# Altium integrated library ModulosV1.IntLib: 16 symbols
Pins are listed as number, name and electrical type; pins without a type are passive.

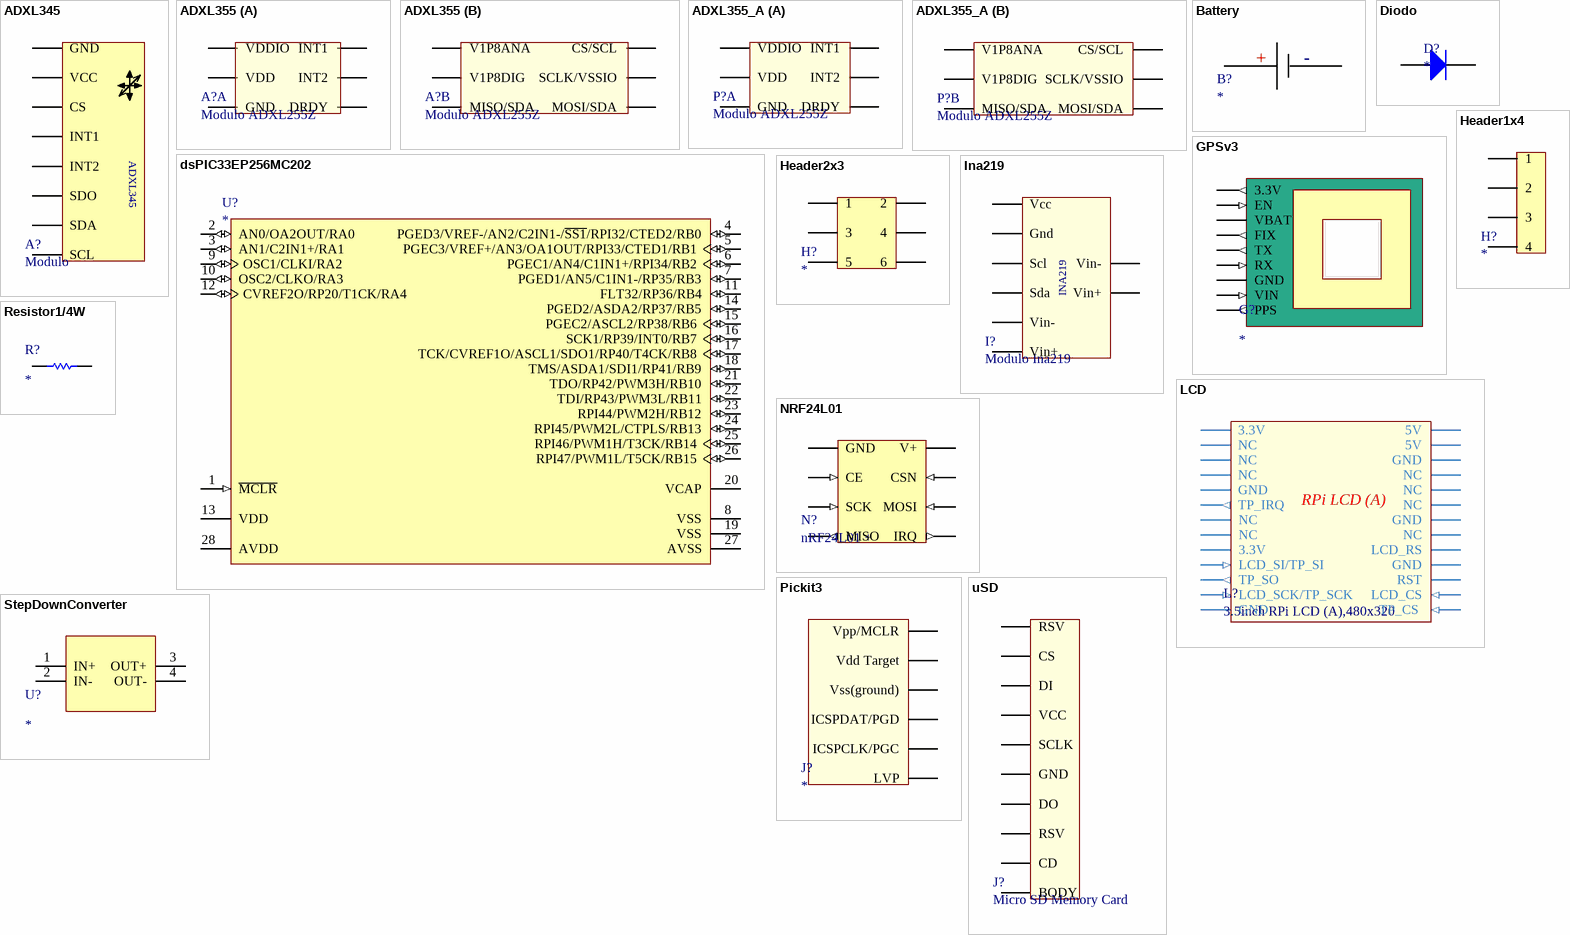
[diagram p0: symbols ADXL345 to uSD]

## ADXL345
designator A?, comment Modulo
footprint ADXL345
pins: 1 GND (power), 2 VCC (power), 3 CS, 4 INT1, 5 INT2, 6 SDO, 7 SDA, 8 SCL

## ADXL355
designator A?, comment Modulo ADXL255Z
footprint ADXL355
part A pins: A1 VDDIO (power), A2 INT1, A3 VDD, A4 INT2, A5 GND, A6 DRDY
part B pins: B1 V1P8ANA, B2 CS/SCL, B3 V1P8DIG, B4 SCLK/VSSIO, B5 MISO/SDA, B6 MOSI/SDA

## ADXL355_A
designator P?, comment Modulo ADXL255Z
footprint ADXL355_A
part A pins: A1 VDDIO (power), A2 INT1, A3 VDD, A4 INT2, A5 GND, A6 DRDY
part B pins: B1 V1P8ANA, B2 CS/SCL, B3 V1P8DIG, B4 SCLK/VSSIO, B5 MISO/SDA, B6 MOSI/SDA

## Battery
designator B?
footprint BatteryP/N500
pins: NEG Negativo (power), POS Positivo (power)
text: +; -

## Diodo
designator D?
pins: 1 A, 2 K

## dsPIC33EP256MC202
designator U?
footprint dsPIC33EP256MC202
pins: 1 ~{MCLR} (in) "Master Clear (Reset) input. This pin is an active-low Reset to the device.", 2 AN0/OA2OUT/RA0 (io), 3 AN1/C2IN1+/RA1 (io), 4 PGED3/VREF-/AN2/C2IN1-/~{SS1}/RPI32/CTED2/RB0 (io), 5 PGEC3/VREF+/AN3/OA1OUT/RPI33/CTED1/RB1 (io), 6 PGEC1/AN4/C1IN1+/RPI34/RB2 (io), 7 PGED1/AN5/C1IN1-/RP35/RB3 (io), 8 VSS (power) "Ground reference for logic and I/O pins.", 9 OSC1/CLKI/RA2 (io), 10 OSC2/CLKO/RA3 (io), 11 FLT32/RP36/RB4 (io), 12 CVREF2O/RP20/T1CK/RA4 (io), 13 VDD (power) "Positive supply for peripheral logic and I/O pins.", 14 PGED2/ASDA2/RP37/RB5 (io), 15 PGEC2/ASCL2/RP38/RB6 (io), 16 SCK1/RP39/INT0/RB7 (io), 17 TCK/CVREF1O/ASCL1/SDO1/RP40/T4CK/RB8 (io), 18 TMS/ASDA1/SDI1/RP41/RB9 (io), 19 VSS (power) "Ground reference for logic and I/O pins.", 20 VCAP "CPU logic filter capacitor connection.", 21 TDO/RP42/PWM3H/RB10 (io), 22 TDI/RP43/PWM3L/RB11 (io), 23 RPI44/PWM2H/RB12 (io), 24 RPI45/PWM2L/CTPLS/RB13 (io), 25 RPI46/PWM1H/T3CK/RB14 (io), 26 RPI47/PWM1L/T5CK/RB15 (io), 27 AVSS (power) "Ground reference for analog modules. This pin must be connected at all times.", 28 AVDD (power) "Positive supply for analog modules. This pin must be connected at all times."

## GPSv3
designator G?
footprint GPSv3 (Ultimate GPS Breakout v3)
pins: 1 3.3V (out), 2 EN (in), 3 VBAT, 4 FIX (out), 5 TX (out), 6 RX (in), 7 GND, 8 VIN (in), 9 PPS (out)

## Header1x4
designator H?
footprint Header1x4M
pins: 1, 2, 3, 4

## Header2x3
designator H?
footprint Header3x2; pin to pad 1>A1 2>A2 3>A3 4>A4 5>A5 6>A6
pins: 1, 2, 3, 4, 5, 6

## Ina219
designator I?, comment Modulo Ina219
footprint INA219
pins: 1 Vcc (power), 2 Gnd (power), 3 Scl, 4 Sda, 5 Vin-, 6 Vin+, 7 Vin-, 8 Vin+
text: INA219

## LCD
designator L?, comment 3.5inch RPi LCD (A),480x320
footprint LCD
pins: 1 3.3V (power) "Power positive (3.3V power input)", 2 5V (power) "Power positive (5V power input)", 3 NC, 4 5V (power) "Power positive (5V power input)", 5 NC, 6 GND "Ground", 7 NC, 8 NC, 9 GND "Ground", 10 NC, 11 TP_IRQ (out) "Touch Panel interrupt, low level while the Touch Panel detects touching", 12 NC, 13 NC, 14 GND "Ground", 15 NC, 16 NC, 17 3.3V (power) "Power positive (3.3V power input)", 18 LCD_RS "Instruction/Data Register selection", 19 LCD_SI/TP_SI (in) "SPI Data Input of LCD/Touch Panel", 20 GND "Ground", 21 TP_SO (out) "SPI Data Output of Touch Panle", 22 RST "Reset", 23 LCD_SCK/TP_SCK (in) "SPI clock of LCD/Touch Panel", 24 LCD_CS (in) "LCD Chip Selection, low active", 25 GND "Ground", 26 TP_CS  (in) "Touch Panel Chip Selection, low active"
text: RPi LCD (A)

## NRF24L01
designator N?, comment nRF24L01 +
footprint NRF24L01
pins: 1 GND (power) "VCC", 2 V+ (power) "VCC", 3 CE (in), 4 CSN (in), 5 SCK (in), 6 MOSI (in), 7 MISO (out), 8 IRQ (out)

## Pickit3
designator J?
footprint Pickit3
pins: 1 Vpp/MCLR, 2 Vdd Target, 3 Vss(ground), 4 ICSPDAT/PGD, 5 ICSPCLK/PGC, 6 LVP

## Resistor1/4W
designator R?
footprint 10k1/4W (1/4W)
pins: 1, 2

## StepDownConverter
designator U?
footprint StepDownConverter
pins: 1 IN+, 2 IN-, 3 OUT+, 4 OUT-

## uSD
designator J?, comment Micro SD Memory Card
footprint microSD
pins: 1 RSV, 2 CS, 3 DI, 4 VCC (power), 5 SCLK, 6 GND, 7 DO, 8 RSV, 9 CD, 10 BODY